# Altium footprint library 核心板的封装.PCBLIB: 1 footprints
Each footprint in its own frame and in the unit in brackets; x right, y up, seen from the top. Pads: shape width x height; smd on the part's side, far side on the other; paste and mask are expansions set on the pad; w line width, h text height; cw(c..) or ccw(c..) is an arc to the next point about the centre after c.
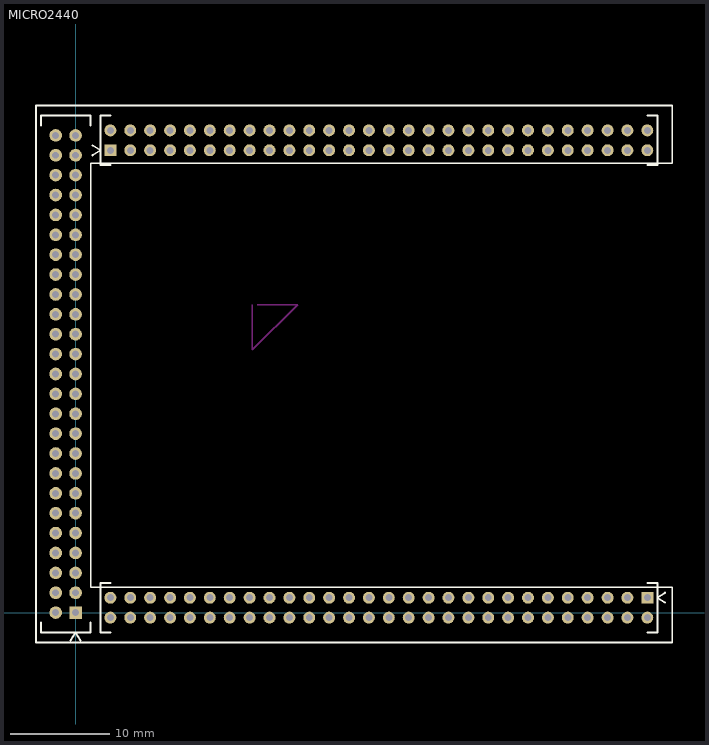
[diagram p0: the footprint, top view; thin cyan lines are the x and y axes]

## MICRO2440 [mm]
pads (162):
  rect 1.2x1.2 hole 0.7: PA1(57.5,1.5) PC1(3.5,46.5)
  round 1.2 hole 0.7: PA2(57.5,-0.5) PA3(55.5,1.5) PA4(55.5,-0.5) PA5(53.5,1.5) PA6(53.5,-0.5) PA7(51.5,1.5) PA8(51.5,-0.5) PA9(49.5,1.5) PA10(49.5,-0.5) PA11(47.5,1.5) PA12(47.5,-0.5) PA13(45.5,1.5) PA14(45.5,-0.5) PA15(43.5,1.5) PA16(43.5,-0.5) PA17(41.5,1.5) PA18(41.5,-0.5) PA19(39.5,1.5) PA20(39.5,-0.5) PA21(37.5,1.5) PA22(37.5,-0.5) PA23(35.5,1.5) PA24(35.5,-0.5) PA25(33.5,1.5) PA26(33.5,-0.5) PA27(31.5,1.5) PA28(31.5,-0.5) PA29(29.5,1.5) PA30(29.5,-0.5) PA31(27.5,1.5) PA32(27.5,-0.5) PA33(25.5,1.5) PA34(25.5,-0.5) PA35(23.5,1.5) PA36(23.5,-0.5) PA37(21.5,1.5) PA38(21.5,-0.5) PA39(19.5,1.5) PA40(19.5,-0.5) PA41(17.5,1.5) PA42(17.5,-0.5) PA43(15.5,1.5) PA44(15.5,-0.5) PA45(13.5,1.5) PA46(13.5,-0.5) PA47(11.5,1.5) PA48(11.5,-0.5) PA49(9.5,1.5) PA50(9.5,-0.5) PA51(7.5,1.5) PA52(7.5,-0.5) PA53(5.5,1.5) PA54(5.5,-0.5) PA55(3.5,1.5) PA56(3.5,-0.5) PC2(3.5,48.5) PC3(5.5,46.5) PC4(5.5,48.5) PC5(7.5,46.5) PC6(7.5,48.5) PC7(9.5,46.5) PC8(9.5,48.5) PC9(11.5,46.5) PC10(11.5,48.5) PC11(13.5,46.5) PC12(13.5,48.5) PC13(15.5,46.5) PC14(15.5,48.5) PC15(17.5,46.5) PC16(17.5,48.5) PC17(19.5,46.5) PC18(19.5,48.5) PC19(21.5,46.5) PC20(21.5,48.5) PC21(23.5,46.5) PC22(23.5,48.5) PC23(25.5,46.5) PC24(25.5,48.5) PC25(27.5,46.5) PC26(27.5,48.5) PC27(29.5,46.5) PC28(29.5,48.5) PC29(31.5,46.5) PC30(31.5,48.5) PC31(33.5,46.5) PC32(33.5,48.5) PC33(35.5,46.5) PC34(35.5,48.5) PC35(37.5,46.5) PC36(37.5,48.5) PC37(39.5,46.5) PC38(39.5,48.5) PC39(41.5,46.5) PC40(41.5,48.5) PC41(43.5,46.5) PC42(43.5,48.5) PC43(45.5,46.5) PC44(45.5,48.5) PC45(47.5,46.5) PC46(47.5,48.5) PC47(49.5,46.5) PC48(49.5,48.5) PC49(51.5,46.5) PC50(51.5,48.5) PC51(53.5,46.5) PC52(53.5,48.5) PC53(55.5,46.5) PC54(55.5,48.5) PC55(57.5,46.5) PC56(57.5,48.5)
  rect 1.27x1.27 hole 0.7: PB1(0,0)
  round 1.27 hole 0.7: PB2(-2,0) PB3(0,2) PB4(-2,2) PB5(0,4) PB6(-2,4) PB7(0,6) PB8(-2,6) PB9(0,8) PB10(-2,8) PB11(0,10) PB12(-2,10) PB13(0,12) PB14(-2,12) PB15(0,14) PB16(-2,14) PB17(0,16) PB18(-2,16) PB19(0,18) PB20(-2,18) PB21(0,20) PB22(-2,20) PB23(0,22) PB24(-2,22) PB25(0,24) PB26(-2,24) PB27(0,26) PB28(-2,26) PB29(0,28) PB30(-2,28) PB31(0,30) PB32(-2,30) PB33(0,32) PB34(-2,32) PB35(0,34) PB36(-2,34) PB37(0,36) PB38(-2,36) PB39(0,38) PB40(-2,38) PB41(0,40) PB42(-2,40) PB43(0,42) PB44(-2,42) PB45(0,44) PB46(-2,44) PB47(0,46) PB48(-2,46) PB49(0,48) PB50(-2,48)
TopOverlay:
  lines w0.127: 58.928,-3 60,-3 60,-2.54 60,2.54 1.524,2.54 1.524,45.212 60,45.212 60,51
  lines w0.2: -3.5,-2 1.5,-2 ; -3.5,50 1.5,49.995 ; 2.5,-2 2.5,3 ; 2.5,45 2.5,50 ; 58.5,-2 58.5,3 ; 58.5,45 58.5,50
  lines w0.203: -3.5,-2 -3.5,-1 ; -3.5,49 -3.5,50 ; -0.5,-2.8 0,-2 0.5,-2.8 ; 1.5,-2 1.5,-1 ; 1.5,49 1.5,50 ; 1.7,46 2.5,46.5 1.7,47 ; 2.5,-2 3.5,-2 ; 2.5,3 3.5,3 ; 2.5,45 3.5,45 ; 2.5,50 3.5,50 ; 57.5,-2 58.5,-2 ; 57.5,3 58.5,3 ; 57.5,45 58.5,45 ; 57.5,50 58.5,50 ; 59.3,1 58.5,1.5 59.3,2 ; 60,-3 -4,-3 -4,51 60,51
KeepOutLayer:
  lines w0.127: 17.78,30.988 17.78,26.416 22.352,30.988 18.288,30.988